# Altium footprint library CAPAE430X610.PcbLib: 1 footprints
Each footprint in its own frame and in the unit in brackets; x right, y up, seen from the top. Pads: shape width x height; smd on the part's side, far side on the other; paste and mask are expansions set on the pad; w line width, h text height; cw(c..) or ccw(c..) is an arc to the next point about the centre after c.
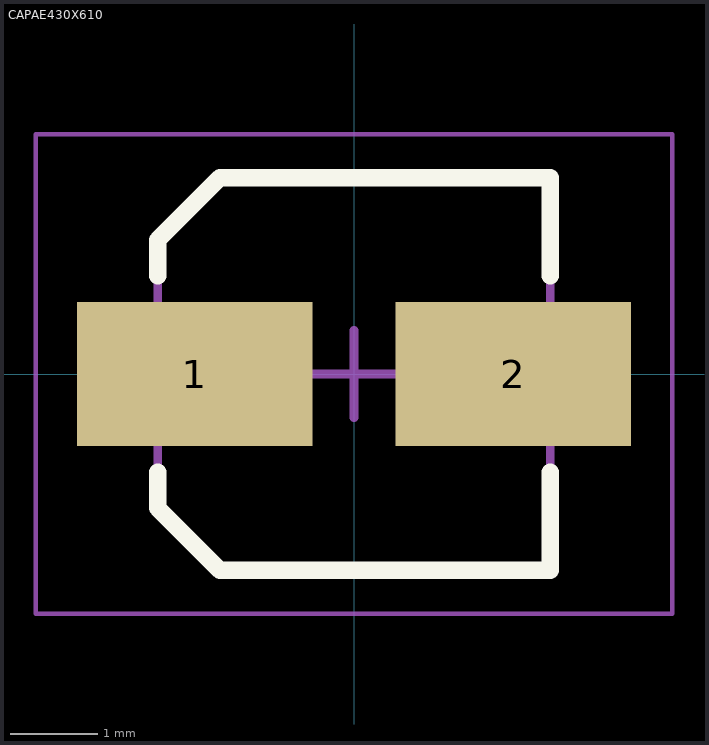
[diagram p0: the footprint, top view; thin cyan lines are the x and y axes]

## CAPAE430X610 [mm] "Aluminum Electrolytic Capacitor, Body 4,30x4,30x6,10mm, IPC Medium Density() (NICHICON)"
height 6.1
pads (2):
  rect 2.7x1.65 smd: 1(-1.825,0) 2(1.825,0)
Top Overlay:
  lines w0.2: -2.25,-1.125 -2.25,-1.538 -1.538,-2.25 2.25,-2.25 2.25,-1.125 ; -2.25,1.125 -2.25,1.538 -1.538,2.25 2.25,2.25 2.25,1.125
3D Body:
  lines w0.1: -2.25,-1.538 -2.25,1.538 -1.538,2.25 2.25,2.25 2.25,-2.25 -1.538,-2.25 -2.25,-1.538
Board:
  lines w0.05: -3.65,-2.75 3.65,-2.75 3.65,2.75 -3.65,2.75 -3.65,-2.75
  lines w0.1: -0.5,0 0.5,0 ; 0,-0.5 0,0.5
3D body: height 6.1, standoff 0, extent -2.25,-2.25 2.25,2.243
3D body: height 2.04, standoff 0, extent -2.25,-2.25 2.25,2.25